# Altium schematic symbol library SIM.SchLib: 3 symbols
Pins are listed as number, name and electrical type; pins without a type are passive.

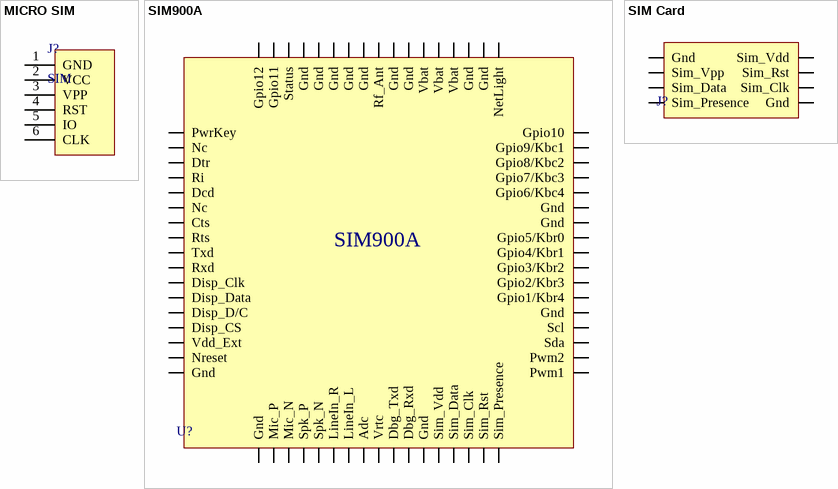
[diagram p0: symbols MICRO SIM to SIM Card]

## MICRO SIM
designator J?, comment SIM
SIM卡座; 版权归属: 源创客; BOM名称: SIM卡座; 学习资源: www.ooocke.com
footprint MICRO SIM (16.30mm*14.66mm*1.8mm(长*宽*厚）)
pins: 1 GND, 2 VCC, 3 VPP, 4 RST, 5 IO, 6 CLK

## SIM900A
designator U?  (value not drawn)
Gprs/Gsm Module
footprint SIM900A
pins: 1 PwrKey, 2 Nc, 3 Dtr, 4 Ri, 5 Dcd, 6 Nc, 7 Cts, 8 Rts, 9 Txd, 10 Rxd, 11 Disp_Clk, 12 Disp_Data, 13 Disp_D/C, 14 Disp_CS, 15 Vdd_Ext, 16 Nreset, 17 Gnd, 18 Gnd, 19 Mic_P, 20 Mic_N, 21 Spk_P, 22 Spk_N, 23 LineIn_R, 24 LineIn_L, 25 Adc, 26 Vrtc, 27 Dbg_Txd, 28 Dbg_Rxd, 29 Gnd, 30 Sim_Vdd, 31 Sim_Data, 32 Sim_Clk, 33 Sim_Rst, 34 Sim_Presence, 35 Pwm1, 36 Pwm2, 37 Sda, 38 Scl, 39 Gnd, 40 Gpio1/Kbr4, 41 Gpio2/Kbr3, 42 Gpio3/Kbr2, 43 Gpio4/Kbr1, 44 Gpio5/Kbr0, 45 Gnd, 46 Gnd, 47 Gpio6/Kbc4, 48 Gpio7/Kbc3, 49 Gpio8/Kbc2, 50 Gpio9/Kbc1, 51 Gpio10, 52 NetLight, 53 Gnd, 54 Gnd, 55 Vbat, 56 Vbat, 57 Vbat, 58 Gnd, 59 Gnd, 60 Rf_Ant, 61 Gnd, 62 Gnd, 63 Gnd, 64 Gnd, 65 Gnd, 66 Status, 67 Gpio11, 68 Gpio12

## SIM Card
designator J?, comment SIM  (value not drawn)
SIM卡座
footprint SIMCARD
pins: 1 Sim_Vdd, 2 Sim_Rst, 3 Sim_Clk, 4 Gnd, 5 Gnd, 6 Sim_Vpp, 7 Sim_Data, 8 Sim_Presence